# Altium footprint library NKK_GW12RHV.PcbLib: 1 footprints
Each footprint in its own frame and in the unit in brackets; x right, y up, seen from the top. Pads: shape width x height; smd on the part's side, far side on the other; paste and mask are expansions set on the pad; w line width, h text height; cw(c..) or ccw(c..) is an arc to the next point about the centre after c.
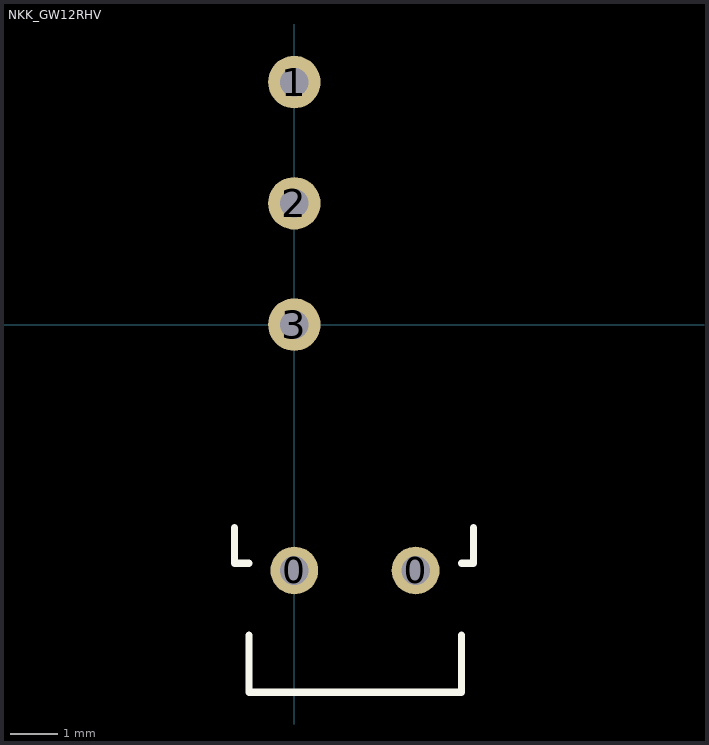
[diagram p0: the footprint, top view; thin cyan lines are the x and y axes]

## NKK_GW12RHV [mm] "NKK Switches GW12RHV"
pads (5):
  round 1 hole 0.6: 0(0,-5.15) 0(2.54,-5.15)
  round 1.1 hole 0.6: 1(0,5.08) 2(0,2.54) 3(0,0)
Top Overlay:
  lines w0.15: -1.25,-4.25 -1.25,-5 -0.95,-5 ; -0.95,-6.5 -0.95,-7.7 3.5,-7.7 3.5,-6.5 ; 3.5,-5 3.75,-5 3.75,-4.25
3D body "GW12RHV.SLDPRT": height 7.91, standoff -3.58, extent -1.232,-9.966 3.772,5.294